# Altium schematic symbol library MAX3222EETP-TQFN20.SchLib: 1 symbol
Pins are listed as number, name and electrical type; pins without a type are passive.

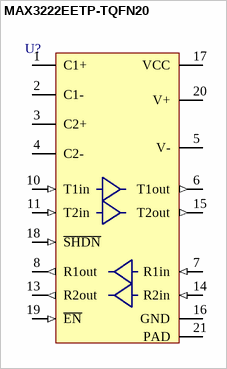
[diagram p0: symbol MAX3222EETP-TQFN20]

## MAX3222EETP-TQFN20
designator U?  (value not drawn)
pins: 1 C1+, 2 C1-, 3 C2+, 4 C2-, 5 V-, 6 T1out (out), 7 R1in (in), 8 R1out (out), 10 T1in (in), 11 T2in (in), 13 R2out (out), 14 R2in (in), 15 T2out (out), 16 GND (power), 17 VCC (power), 18 ~{SHDN} (in), 19 ~{EN} (in), 20 V+, 21 PAD (power)